# Altium schematic symbol library SDR0604-221KL.SchLib: 1 symbol
Pins are listed as number, name and electrical type; pins without a type are passive.

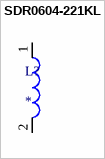
[diagram p0: symbol SDR0604-221KL]

## SDR0604-221KL
designator L?
Inductor Power Wirewound 120uH 10% 1KHz 22Q-Factor Ferrite 480mA 930mOhm DCR T/R; MP: SDR0604-221KL; Package: None; Price: None; Value: *; Availability: Unavailable
footprint INDP5858X480N
footprint INDP5858X480N
pins: 1, 2